# EAGLE library part VNH2SP30 (library SparkFun-PowerIC)
30A motor driver IC
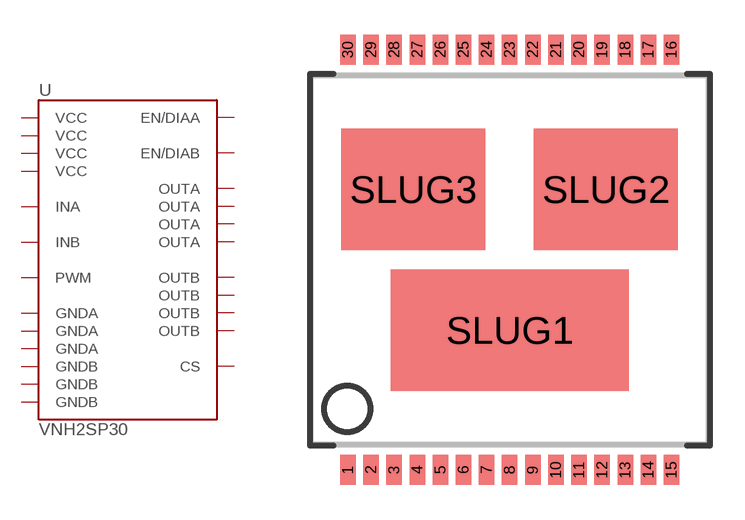
[diagram p19: symbol with the pads of VNH2SP30; footprint VNH2SP30]

Designator prefix -

## VNH2SP30  [VNH2SP30]
1  OUTA
3  VCC
5  INA
6  EN/DIAA
8  PWM
9  CS
10  EN/DIAB
11  INB
13  VCC
15  OUTB
16  OUTB
18  GNDB
19  GNDB
20  GNDB
21  OUTB
23  VCC
25  OUTA
26  GNDA
27  GNDA
28  GNDA
30  OUTA
SLUG1  VCC
SLUG2  OUTB
SLUG3  OUTA

## Footprint VNH2SP30 (pad centres in mm)
smd 0.67 x 1.3: 1 -7,-9.1; 2 -6,-9.1; 3 -5,-9.1; 4 -4,-9.1; 5 -3,-9.1; 6 -2,-9.1; 7 -1,-9.1; 8 0,-9.1; 9 1,-9.1; 10 2,-9.1; 11 3,-9.1; 12 4,-9.1; 13 5,-9.1; 14 6,-9.1; 15 7,-9.1; 16 7,9.1; 17 6,9.1; 18 5,9.1; 19 4,9.1; 20 3,9.1; 21 2,9.1; 22 1,9.1; 23 0,9.1; 24 -1,9.1; 25 -2,9.1; 26 -3,9.1; 27 -4,9.1; 28 -5,9.1; 29 -6,9.1; 30 -7,9.1
smd 10.3 x 5.25: SLUG1 0,-3.05
smd 6.23 x 5.25: SLUG2 4.165,3.05; SLUG3 -4.165,3.05